# EAGLE library part LM324_OP_AMP (library UBCSolar)
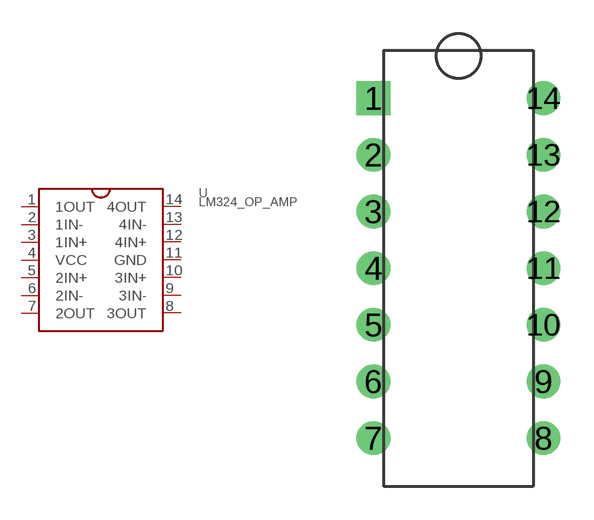
[diagram p7: symbol with the pads of LM324_OP_AMP; footprint LM324_OP_AMP]

Designator prefix -

## LM324_OP_AMP  [LM324_OP_AMP]
1  1OUT
2  1IN-
3  1IN+
4  VCC
5  2IN+
6  2IN-
7  2OUT
8  3OUT
9  3IN-
10  3IN+
11  GND
12  4IN+
13  4IN-
14  4OUT

## Footprint LM324_OP_AMP (pad centres in mm)
LM324 Quad Op Amp: https://www.digikey.ca/product-detail/en/LM324KN/296-18451-5-ND/809734/?itemSeq=291240533
drill 1 square: 1 -3.81,7.62
drill 1: 2 -3.81,5.08; 3 -3.81,2.54; 4 -3.81,0; 5 -3.81,-2.54; 6 -3.81,-5.08; 7 -3.81,-7.62; 8 3.81,-7.62; 9 3.81,-5.08; 10 3.81,-2.54; 11 3.81,0; 12 3.81,2.54; 13 3.81,5.08; 14 3.81,7.62